# Altium footprint library TI-6-WSON-2x2.PcbLib: 1 footprints
Each footprint in its own frame and in the unit in brackets; x right, y up, seen from the top. Pads: shape width x height; smd on the part's side, far side on the other; paste and mask are expansions set on the pad; w line width, h text height; cw(c..) or ccw(c..) is an arc to the next point about the centre after c.
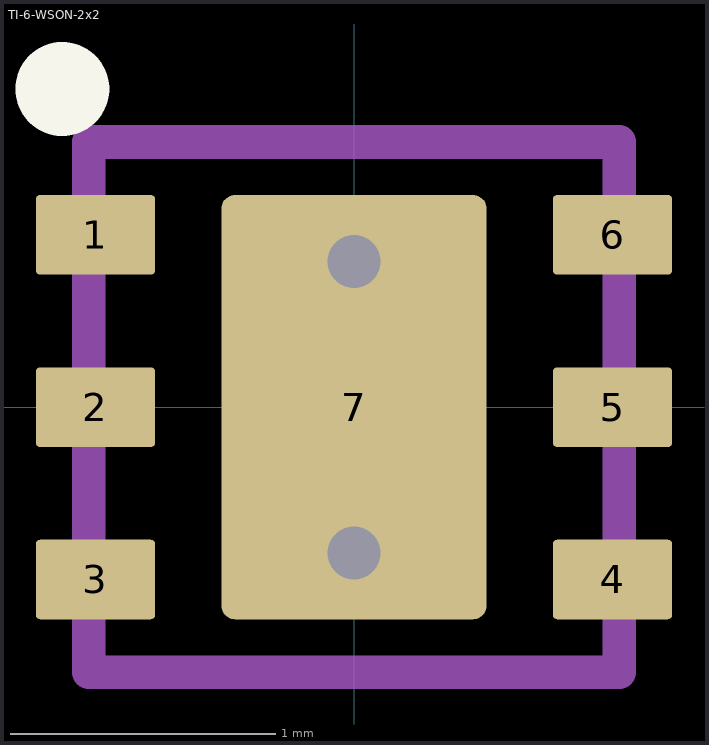
[diagram p0: the footprint, top view; thin cyan lines are the x and y axes]

## TI-6-WSON-2x2 [mm]
height 0.8
pads (7):
  rrect10% 0.45x0.3 smd mask+0.051: 1(-0.975,0.65) 2(-0.975,0) 3(-0.975,-0.65) 4(0.975,-0.65) 5(0.975,0) 6(0.975,0.65)
  rrect10% 1x1.6 smd mask+0.051: 7(0,0)
via 0,-0.55 diameter 0.4 hole 0.2
via 0,0.55 diameter 0.4 hole 0.2
Top Overlay:
  circle w0.254: c-1.1,1.2 r0.05
Mechanical 13 (Mech13):
  lines w0.127: -1,-1 -1,1 1,1 1,-1 -1,-1
Mechanical 15:
  lines w0.127: -0.2,0 0,0 ; 0,-0.2 0,0 ; 0,0.2 0,0 ; 0.2,0 0,0
3D body "TPS74601PBDRVR.STEP": height 0.8, standoff 0, extent -1,-1 1,1